# EAGLE library part MCP2551 (library MCP2551)
Maciej Kalinowski maciek@chwarzno.pl
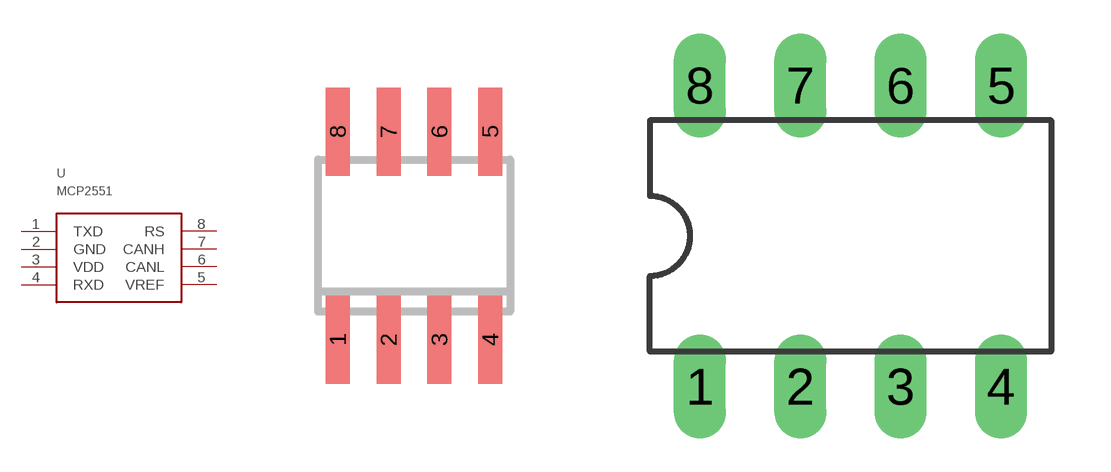
[diagram p0: symbol with the pads of SO-08; footprints SO-08, DIL08]

Designator prefix U

## MCP2551-SN  [SO-08]
1  TXD  out
2  GND  sup
3  VDD  sup
4  RXD  in
5  VREF  out
6  CANL
7  CANH
8  RS  out

## MCP2551-I/P  [DIL08]
Pads as for SO-08

## Footprint SO-08 (pad centres in mm)
Small Outline Narrow Plastic Gull Wing 150-mil body, package type SN
smd 0.6 x 2.2: 1 -1.905,-2.6; 2 -0.635,-2.6; 3 0.635,-2.6; 4 1.905,-2.6; 5 1.905,2.6; 6 0.635,2.6; 7 -0.635,2.6; 8 -1.905,2.6

## Footprint DIL08 (pad centres in mm)
Dual In Line Package
drill 0.813 long: 1 -3.81,-3.81; 2 -1.27,-3.81; 3 1.27,-3.81; 4 3.81,-3.81; 5 3.81,3.81; 6 1.27,3.81; 7 -1.27,3.81; 8 -3.81,3.81